# EAGLE library part TEST_MATE_TYPE_3 (library test-mate)
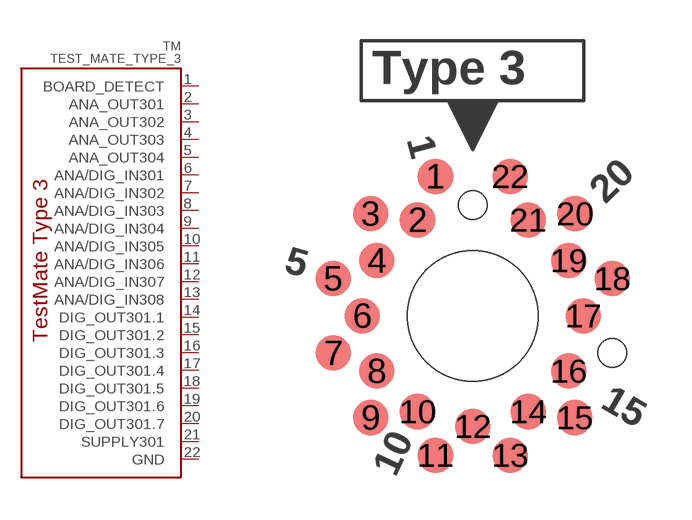
[diagram p1: symbol with the pads of TEST_MATE_TYPE_3; footprint TEST_MATE_TYPE_3]

Designator prefix TM

## TEST_MATE_TYPE_3  [TEST_MATE_TYPE_3]
1  BOARD_DETECT
2  ANA_OUT301
3  ANA_OUT302
4  ANA_OUT303
5  ANA_OUT304
6  ANA/DIG_IN301
7  ANA/DIG_IN302
8  ANA/DIG_IN303
9  ANA/DIG_IN304
10  ANA/DIG_IN305
11  ANA/DIG_IN306
12  ANA/DIG_IN307
13  ANA/DIG_IN308
14  DIG_OUT301.1
15  DIG_OUT301.2
16  DIG_OUT301.3
17  DIG_OUT301.4
18  DIG_OUT301.5
19  DIG_OUT301.6
20  DIG_OUT301.7
21  SUPPLY301
22  GND

## Footprint TEST_MATE_TYPE_3 (pad centres in mm)
smd 1.3 x 1.3: 1 -1.37,5.12; 2 -2.03,3.52; 3 -3.75,3.75; 4 -3.52,2.03; 5 -5.12,1.37; 6 -4.06,0; 7 -5.12,-1.37; 8 -3.52,-2.03; 9 -3.74,-3.74; 10 -2.03,-3.52; 11 -1.37,-5.12; 12 0,-4.06; 13 1.37,-5.12; 14 2.03,-3.52; 15 3.74,-3.74; 16 3.52,-2.03; 17 4.06,0; 18 5.12,1.37; 19 3.52,2.03; 20 3.75,3.75; 21 2.03,3.52; 22 1.37,5.12
hole 4.8 at 0,0
hole 1.05 at 0,4.06
hole 1.05 at 5.12,-1.37